# Altium schematic symbol library 0527450897.SchLib: 1 symbol
Pins are listed as number, name and electrical type; pins without a type are passive.

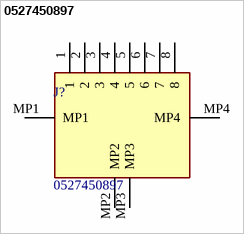
[diagram p0: symbol 0527450897]

## 0527450897
designator J?
Easy-On FFC/FPC Connector, 0.50mm Pitch, Slider Series, Right-Angle, Top  Contact, 2.00mm Height, 8 Circuits, Gold Plating; Manufacturer_Name: Molex; Geometry.Height: 2.2mm; Manufacturer_Part_Number: 0527450897; Mouser Part Number: *; Mouser Price/Stock: *; Arrow Part Number: 0527450897; Arrow Price/Stock: https://www.arrow.com/en/products/0527450897/molex; Datasheet Link: https://www.molex.com/en-us/products/part-detail-pdf/527450897?display=pdf
footprint 0527450897
pins: 1, 2, 3, 4, 5, 6, 7, 8, MP1, MP2, MP3, MP4